# EAGLE library part 43045-06 (library con-molex-micro-fit)
HEADER
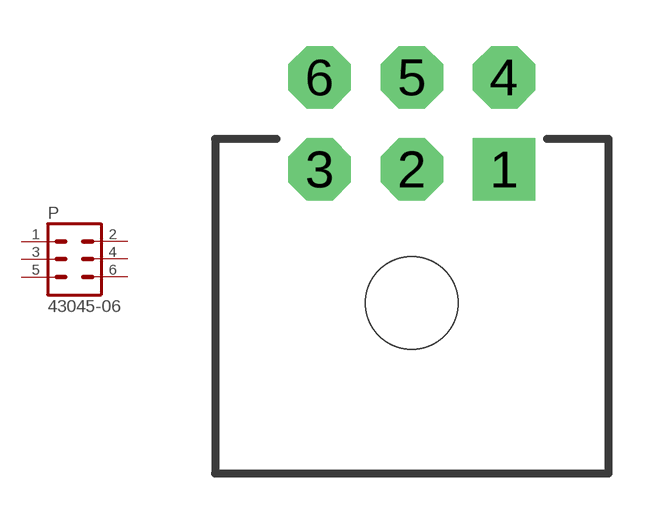
[diagram p0: symbol with the pads of 43045-06; footprint 43045-06]

Designator prefix P

## 43045-06  [43045-06]
1  1  pas
2  2  pas
3  3  pas
4  4  pas
5  5  pas
6  6  pas

## Footprint 43045-06 (pad centres in mm)
HEADER
drill 1.016 pad 2.032 square: 1 3,0
drill 1.016 pad 2.032 octagon: 2 0,0; 3 -3,0; 4 3,3; 5 0,3; 6 -3,3
hole 3 at 0,-4.35